# Altium schematic symbol library LM74.Schlib: 1 symbol
Pins are listed as number, name and electrical type; pins without a type are passive.

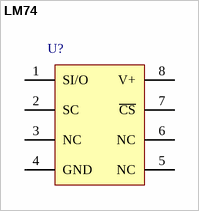
[diagram p0: symbol LM74]

## LM74
designator U?  (value not drawn)
SPI 12-bit Temperature Sensor
pins: 1 SI/O, 2 SC, 3 NC, 4 GND, 5 NC, 6 NC, 7 ~{CS}, 8 V+